# EAGLE library part TRAFO_ADC (library Cynara-Adc)
Trafo 1CT:1CT DIL6
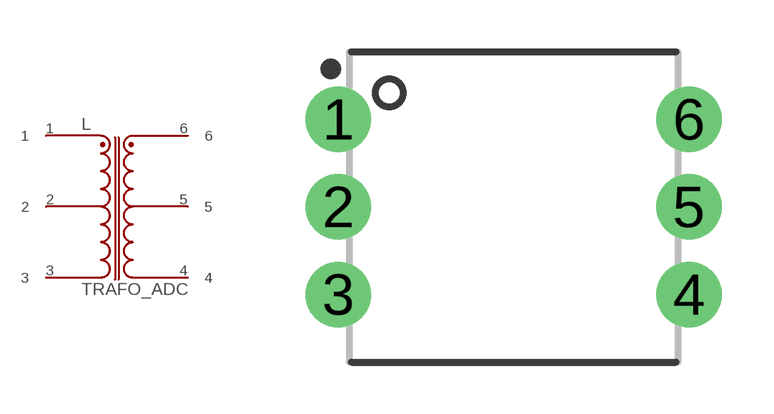
[diagram p0: symbol with the pads of TRAFO78615; footprint TRAFO78615]

Designator prefix L

## TRAFO_ADC-CT/CT (ARTIKEL: 08-ioc; BEHUIZING: dil6; I: A; U: V; WAARDE: 78615/2C)  [TRAFO78615]
1  1
2  2
3  3
4  4
5  5
6  6

## Footprint TRAFO78615 (pad centres in mm)
drill 1.2 pad 1.9: 1 -5.08,2.54; 2 -5.08,0; 3 -5.08,-2.54; 4 5.08,-2.54; 5 5.08,0; 6 5.08,2.54